# Altium footprint library SMD_1210.PcbLib: 1 footprints
Each footprint in its own frame and in the unit in brackets; x right, y up, seen from the top. Pads: shape width x height; smd on the part's side, far side on the other; paste and mask are expansions set on the pad; w line width, h text height; cw(c..) or ccw(c..) is an arc to the next point about the centre after c.
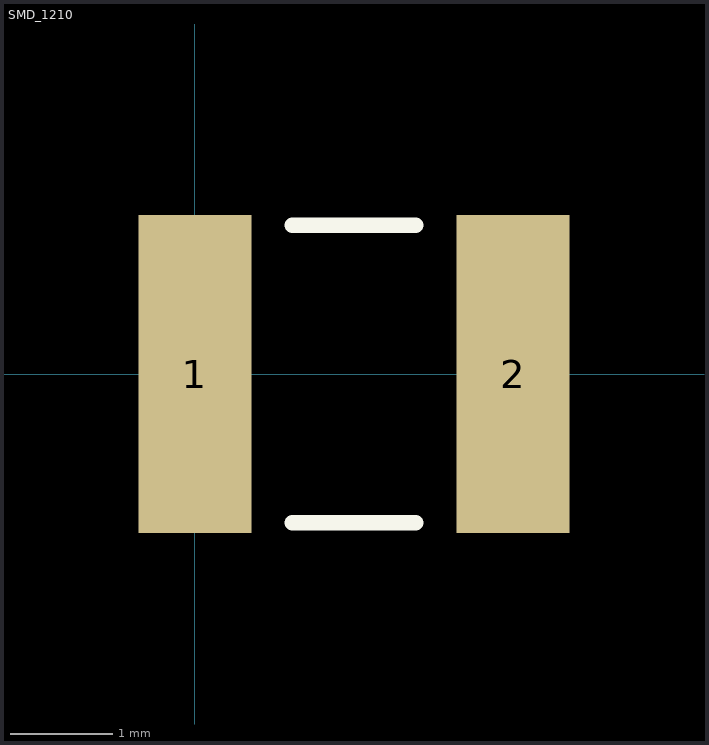
[diagram p0: the footprint, top view; thin cyan lines are the x and y axes]

## SMD_1210 [mm]
height 0.6
pads (2):
  rect 1.1x3.1 smd: 1(0,0) 2(3.1,0)
Top Overlay:
  lines w0.15: 0.95,-1.45 2.15,-1.45 ; 0.95,1.45 2.15,1.45
3D body "SMD_1210.step": height 0.5, standoff 0, extent -0.2,-1.3 3.5,1.3